# Altium footprint library eFuses.PcbLib: 1 footprints
Each footprint in its own frame and in the unit in brackets; x right, y up, seen from the top. Pads: shape width x height; smd on the part's side, far side on the other; paste and mask are expansions set on the pad; w line width, h text height; cw(c..) or ccw(c..) is an arc to the next point about the centre after c.
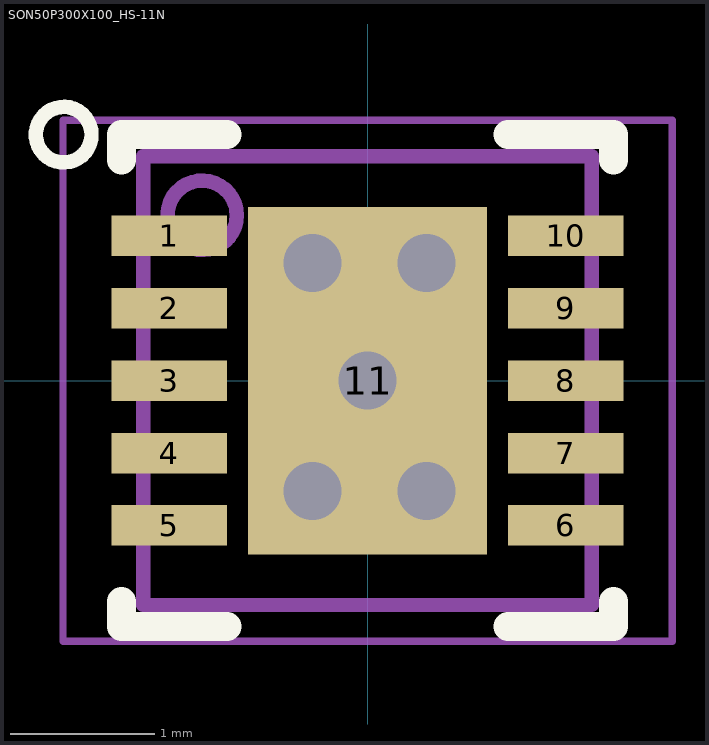
[diagram p0: the footprint, top view; thin cyan lines are the x and y axes]

## SON50P300X100_HS-11N [mm] "SON, 10-Leads, Body 3.00x3.00mm, Pitch 0.50mm, Thermal Pad 2.40x1.34mm, IPC Medium Density"
height 1
pads (11):
  rect 0.8x0.28 smd: 1(-1.37,1) 2(-1.37,0.5) 3(-1.37,0) 4(-1.37,-0.5) 5(-1.37,-1) 6(1.37,-1) 7(1.37,-0.5) 8(1.37,0) 9(1.37,0.5) 10(1.37,1)
  rect 1.65x2.4 smd: 11(0,0)
via 0.406,0.813 diameter 0.5 hole 0.4
via 0.406,-0.762 diameter 0.5 hole 0.4
via -0.381,-0.762 diameter 0.5 hole 0.4
via 0,0 diameter 0.5 hole 0.4
via -0.381,0.813 diameter 0.5 hole 0.4
Top Overlay:
  circle w0.1: c-2.1,1.7 r0.192
  lines w0.2: -1.7,-1.525 -1.7,-1.7 -0.97,-1.7 ; -1.7,1.525 -1.7,1.7 -0.97,1.7 ; 0.97,-1.7 1.7,-1.7 1.7,-1.525 ; 0.97,1.7 1.7,1.7 1.7,1.525
Mechanical 13:
  circle w0.1: c-1.143,1.143 r0.239
  lines w0.1: -1.55,-1.55 1.55,-1.55 1.55,1.55 -1.55,1.55 -1.55,-1.55
Mechanical 15:
  lines w0.05: -2.105,-1.8 2.105,-1.8 2.105,1.8 -2.105,1.8 -2.105,-1.8
  lines w0.1: -0.5,0 0.5,0 ; 0,-0.5 0,0.5
3D body "SON50P300X100_HS-11N.step": height 1, standoff 0, extent -1.6,-1.55 1.6,1.55